# EAGLE library part TPS65270PWPR (library TPS65270PWPR)
2 Buck Converter with 4.5V to 16V Input Voltage, 2A/3A Output Current Source: Datasheet <http://www.ti.com/lit/gpn/tps65270>
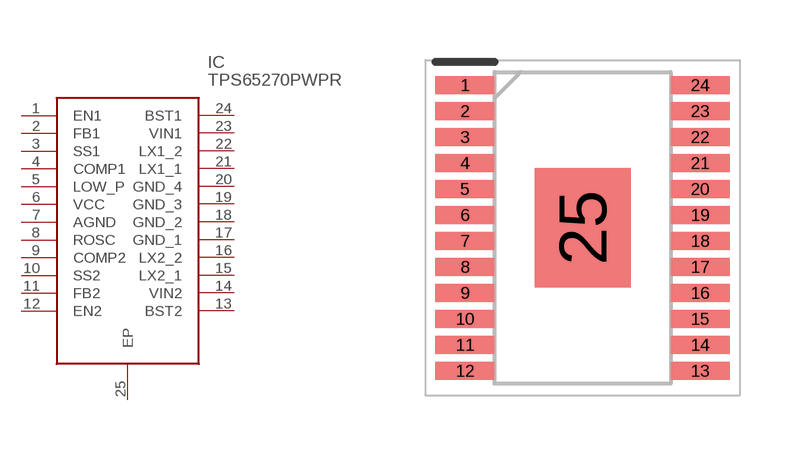
[diagram p0: symbol with the pads of SOP65P640X120-25N; footprint SOP65P640X120-25N]

Designator prefix IC

## TPS65270PWPR (Arrow_Part_Number: TPS65270PWPR; Arrow_Price-Stock: https://www.arrow.com/en/products/tps65270pwpr/texas-instruments; Description: 2 Buck Converter with 4.5V to 16V Input Voltage, 2A/3A Output Current; Height: 1.2mm; Manufacturer_Name: Texas Instruments; Manufacturer_Part_Number: TPS65270PWPR; Mouser_Part_Number: 595-TPS65270PWPR; Mouser_Price-Stock: https://www.mouser.co.uk/ProductDetail/Texas-Instruments/TPS65270PWPR?qs=0wAdyr7iVNgXpMrCa5cV8g%3D%3D)  [SOP65P640X120-25N]
1  EN1
2  FB1
3  SS1
4  COMP1
5  LOW_P
6  VCC
7  AGND
8  ROSC
9  COMP2
10  SS2
11  FB2
12  EN2
13  BST2
14  VIN2
15  LX2_1
16  LX2_2
17  GND_1
18  GND_2
19  GND_3
20  GND_4
21  LX1_1
22  LX1_2
23  VIN1
24  BST1
25  EP

## Footprint SOP65P640X120-25N (pad centres in mm)
PWP0024P
smd 1.475 x 0.45: 1 -2.938,3.575; 2 -2.938,2.925; 3 -2.938,2.275; 4 -2.938,1.625; 5 -2.938,0.975; 6 -2.938,0.325; 7 -2.938,-0.325; 8 -2.938,-0.975; 9 -2.938,-1.625; 10 -2.938,-2.275; 11 -2.938,-2.925; 12 -2.938,-3.575; 13 2.938,-3.575; 14 2.938,-2.925; 15 2.938,-2.275; 16 2.938,-1.625; 17 2.938,-0.975; 18 2.938,-0.325; 19 2.938,0.325; 20 2.938,0.975; 21 2.938,1.625; 22 2.938,2.275; 23 2.938,2.925; 24 2.938,3.575
smd 2.4 x 2.98: 25 0,0